# Altium footprint library CapcitorFootprint.PcbLib: 3 footprints
Each footprint in its own frame and in the unit in brackets; x right, y up, seen from the top. Pads: shape width x height; smd on the part's side, far side on the other; paste and mask are expansions set on the pad; w line width, h text height; cw(c..) or ccw(c..) is an arc to the next point about the centre after c.
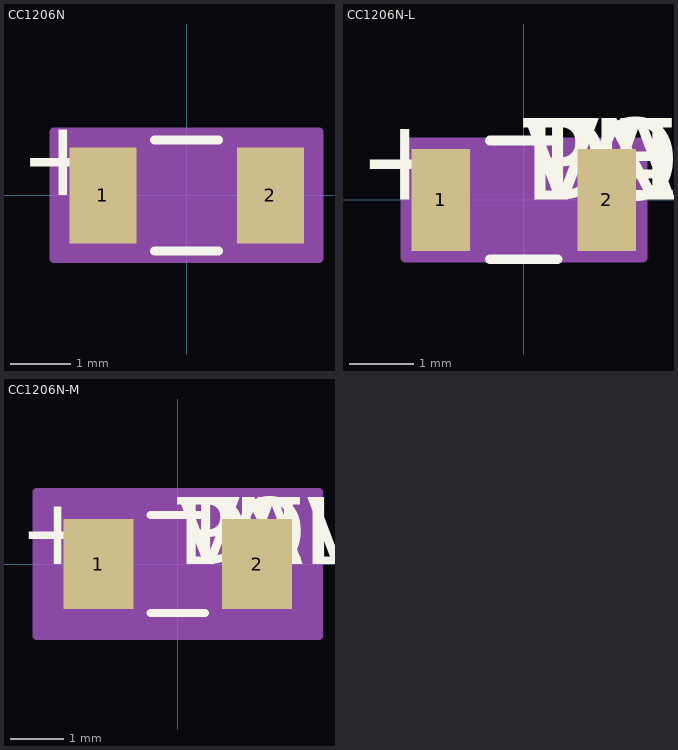
[diagram p0: the footprints below, top view; thin cyan lines are the x and y axes]

## CC1206N [mil]
pads (2):
  rect 44x63 smd paste+0 mask+0: 1(-55,0) 2(55,0)
Top Overlay:
  lines w6: -20.89,-36.5 20.89,-36.5 ; -20.89,36.5 20.89,36.5
  text "+" at -110,0 h50
Mechanical 13:
  lines w1: -63,-31.5 -63,31.5 ; -63,-31.5 -33,-31.5 -33,31.5 -63,31.5 ; -63,-31.5 63,-31.5 ; -63,-31.5 -63,31.5 ; -63,31.5 63,31.5 ; 63,-31.5 33,-31.5 33,31.5 63,31.5 ; 63,-31.5 63,31.5 ; 63,-31.5 63,31.5
  text "+" at -110,0 h50
Mechanical 15:
  region: 87,-41.5 -87,-41.5 -87,41.5 87,41.5
  lines w6: -87,-41.5 -87,41.5 87,41.5 87,-41.5 -87,-41.5
3D body: height 10, standoff 0, extent 0,0 10,10

## CC1206N-L [mil]
pads (2):
  rect 36x63 smd paste+0 mask+0: 1(-51,0) 2(51,0)
Top Overlay:
  lines w6: -20.89,-36.5 20.89,-36.5 ; -20.89,36.5 20.89,36.5
  text "+" at -102,0 h50
  text "PN" at 0,0 h50
  text "DEV" at 0,0 h50
  text "VAL" at 0,0 h50
  text "TOL" at 0,0 h50
Mechanical 13:
  lines w1: -63,-31.5 -63,31.5 ; -63,-31.5 -33,-31.5 -33,31.5 -63,31.5 ; -63,-31.5 63,-31.5 ; -63,-31.5 -63,31.5 ; -63,31.5 63,31.5 ; 63,-31.5 33,-31.5 33,31.5 63,31.5 ; 63,-31.5 63,31.5 ; 63,-31.5 63,31.5
  text "+" at -102,0 h50
  text "RefDes2" at 0,0 h50
Mechanical 15:
  region: 73,-35.5 -73,-35.5 -73,35.5 73,35.5
  lines w6: -73,-35.5 -73,35.5 73,35.5 73,-35.5 -73,-35.5
3D body: height 10, standoff 0, extent 0,0 10,10

## CC1206N-M [mil]
pads (2):
  rect 52x67 smd paste+0 mask+0: 1(-59,0) 2(59,0)
Top Overlay:
  lines w6: -20.25,-36.5 20.25,-36.5 ; -20.25,36.5 20.25,36.5
  text "+" at -118,0 h50
  text "PN" at 0,0 h50
  text "DEV" at 0,0 h50
  text "VAL" at 0,0 h50
  text "TOL" at 0,0 h50
Mechanical 13:
  lines w1: -63,-31.5 -63,31.5 ; -63,-31.5 -33,-31.5 -33,31.5 -63,31.5 ; -63,-31.5 63,-31.5 ; -63,-31.5 -63,31.5 ; -63,31.5 63,31.5 ; 63,-31.5 33,-31.5 33,31.5 63,31.5 ; 63,-31.5 63,31.5 ; 63,-31.5 63,31.5
  text "+" at -118,0 h50
  text "RefDes2" at 0,0 h50
Mechanical 15:
  region: 105,-53.5 -105,-53.5 -105,53.5 105,53.5
  lines w6: -105,-53.5 -105,53.5 105,53.5 105,-53.5 -105,-53.5
3D body: height 10, standoff 0, extent 0,0 10,10